# EAGLE library part RESISTOR-PACK-4 (library Components)
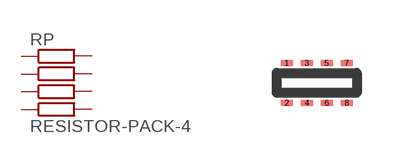
[diagram p0: symbol with the pads of CN1E4K; footprint CN1E4K]

Designator prefix RP

## RESISTOR-PACK-4  [CN1E4K]
1  1  pas
2  2  pas
3  3  pas
4  4  pas
5  5  pas
6  6  pas
7  7  pas
8  8  pas

## Footprint CN1E4K (pad centres in mm)
4 Resistor Pack
smd 0.3 x 0.15: 1 0,0.5; 2 0,-0.5; 3 0.5,0.5; 4 0.5,-0.5; 5 1,0.5; 6 1,-0.5; 7 1.5,0.5; 8 1.5,-0.5